# EAGLE library part HILFSSCHUETZ_13-14_23-24_33_34 (library e-schuetze-relais)
Hilfsschütz mit 3 Schließern
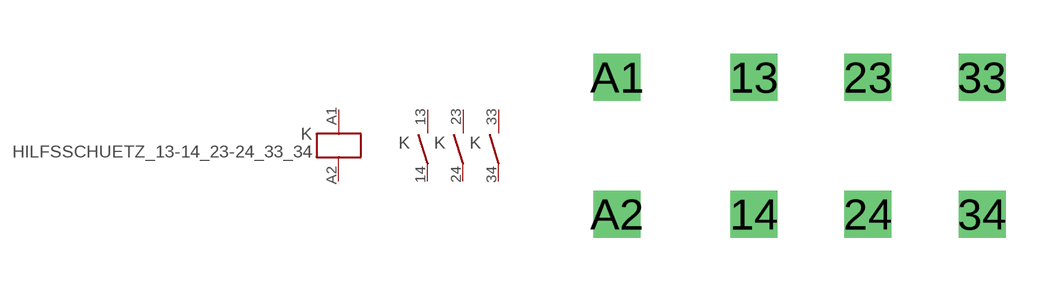
[diagram p11: symbol with the pads of HILFSSCHUETZ_13-14_23-24_33_34; footprint HILFSSCHUETZ_13-14_23-24_33_34]

Designator prefix K; gates G$1=SPULE 1=SCHLIESSER 2=SCHLIESSER 3=SCHLIESSER

## HILFSSCHUETZ_13-14_23-24_33_34  [HILFSSCHUETZ_13-14_23-24_33_34]
13  1:3  pas
14  1:4  pas
23  2:3  pas
24  2:4  pas
33  3:3  pas
34  3:4  pas
A1  G$1:A1  in
A2  G$1:A2  in

## Footprint HILFSSCHUETZ_13-14_23-24_33_34 (pad centres in mm)
Dummy
drill 0.8 square: 13 0,1.905; 14 0,-1.905; 23 3.175,1.905; 24 3.175,-1.905; 33 6.35,1.905; 34 6.35,-1.905; A1 -3.81,1.905; A2 -3.81,-1.905